# Altium footprint library SOT-223.PcbLib: 1 footprints
Each footprint in its own frame and in the unit in brackets; x right, y up, seen from the top. Pads: shape width x height; smd on the part's side, far side on the other; paste and mask are expansions set on the pad; w line width, h text height; cw(c..) or ccw(c..) is an arc to the next point about the centre after c.
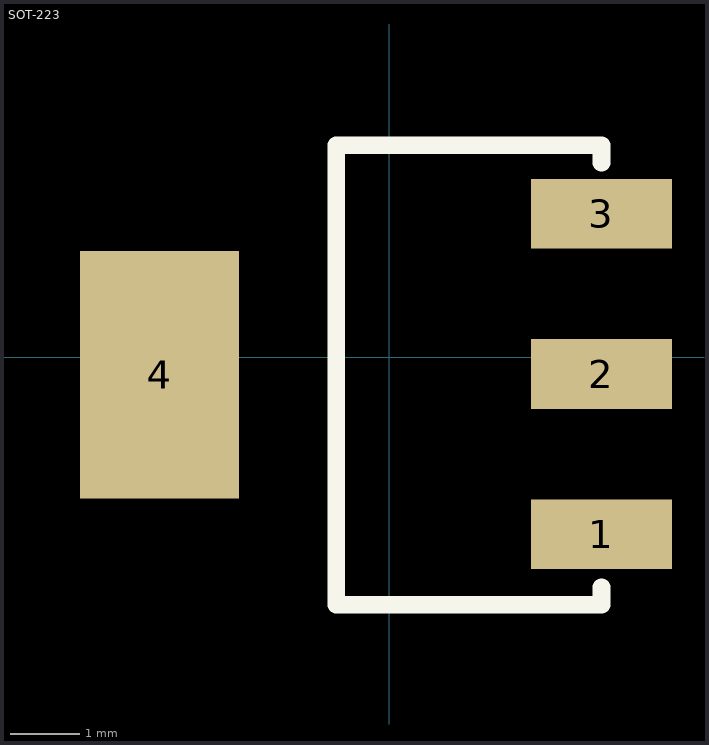
[diagram p0: the footprint, top view; thin cyan lines are the x and y axes]

## SOT-223 [mil] "SOT-223"
pads (4):
  rect 80x39.37 smd: 1(120,-100) 2(120,-9.45) 3(120,81.1)
  rect 90x140 smd: 4(-130,-10)
Top Overlay:
  lines w10: 60,-140 120,-140 120,-130 ; 100,-140 -30,-140 -30,120 120,120 120,110